# Altium schematic symbol library parts.SchLib: 4 symbols
Pins are listed as number, name and electrical type; pins without a type are passive.

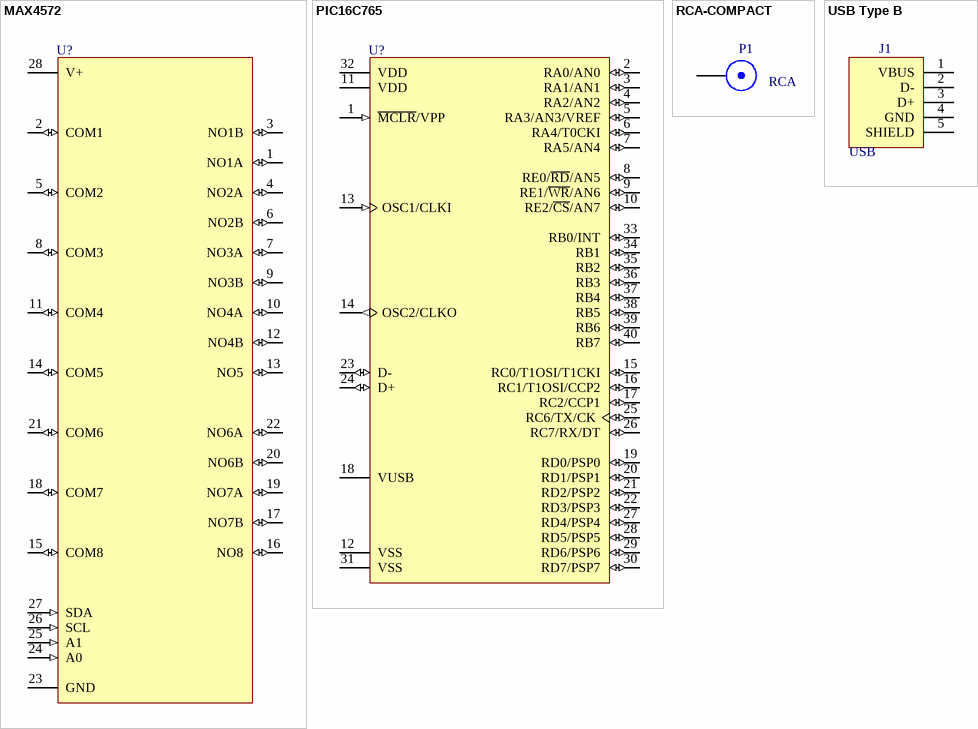
[diagram p0: symbols MAX4572 to USB Type B]

## MAX4572
designator U?
Serially Controlled, Clickless Audio/Video switch; Manufacturer: Maxim; Revision: Initially drawn- Micah Dowty; Class I: Audio/Video Switch; Class II: Serially Controlled
footprint Model Name (Model Description)
pins: 1 NO1A (io), 2 COM1 (io), 3 NO1B (io), 4 NO2A (io), 5 COM2 (io), 6 NO2B (io), 7 NO3A (io), 8 COM3 (io), 9 NO3B (io), 10 NO4A (io), 11 COM4 (io), 12 NO4B (io), 13 NO5 (io), 14 COM5 (io), 15 COM8 (io), 16 NO8 (io), 17 NO7B (io), 18 COM7 (io), 19 NO7A (io), 20 NO6B (io), 21 COM6 (io), 22 NO6A (io), 23 GND (power), 24 A0 (in), 25 A1 (in), 26 SCL (in), 27 SDA (in), 28 V+ (power)

## PIC16C765
designator U?
EPROM-Based 8-Bit CMOS Microcontroller with USB; Manufacturer: Microchip; Revision: Modified for PIC16C745 by Micah Dowty; Package Reference: P40; Class I: Microcontroller; Class II: 8-bit
footprint DIP-40
pins: 1 ~{MCLR}/VPP (in), 2 RA0/AN0 (io), 3 RA1/AN1 (io), 4 RA2/AN2 (io), 5 RA3/AN3/VREF (io), 6 RA4/T0CKI (io), 7 RA5/AN4 (io), 8 RE0/~{RD}/AN5 (io), 9 RE1/~{WR}/AN6 (io), 10 RE2/~{CS}/AN7 (io), 11 VDD (power), 12 VSS (power), 13 OSC1/CLKI (in), 14 OSC2/CLKO (out), 15 RC0/T1OSI/T1CKI (io), 16 RC1/T1OSI/CCP2 (io), 17 RC2/CCP1 (io), 18 VUSB (power), 19 RD0/PSP0 (io), 20 RD1/PSP1 (io), 21 RD2/PSP2 (io), 22 RD3/PSP3 (io), 23 D- (io), 24 D+ (io), 25 RC6/TX/CK (io), 26 RC7/RX/DT (io), 27 RD4/PSP4 (io), 28 RD5/PSP5 (io), 29 RD6/PSP6 (io), 30 RD7/PSP7 (io), 31 VSS (power), 32 VDD (power), 33 RB0/INT (io), 34 RB1 (io), 35 RB2 (io), 36 RB3 (io), 37 RB4 (io), 38 RB5 (io), 39 RB6 (io), 40 RB7 (io)

## RCA-COMPACT
designator P1, comment RCA
RCA Connector; Manufacturer: Generic Components; Revision: Tweaked schematic symbol, changed PCB layout; Class I: Connector
signal-integrity model Connector
footprint RCJ-02X
pins: 1 X, 2 Y hidden to GND

## USB Type B
designator J1, comment USB
Header, 4-Pin; Manufacturer: Generic Components; Class I: Connector; Revision: July-2002: Re-released for DXP Platform.; Publisher: Altium Limited
signal-integrity model Connector
footprint USB-TYPEB
pins: 1 VBUS, 2 D-, 3 D+, 4 GND, 5 SHIELD (power)